# EAGLE library part 62000821821 (library Board_to_Board_Connectors_rev15d)
WR-PHD 2.00mm Dual Socket Header, 8 Pins=>Code : Con_BTB_SHD_2.00_2_62000821821 <http://katalog.we-online.de/media/thumbs2/eican/thb_Con_BTB_SHD_2.00_2_6200xx21821_pf2.jpg> Details see: http://katalog.we-online.de/en/em/620_0xx_218_21 Created 2014-06-03, Karrer Zheng 2014 (C) Würth Elektronik
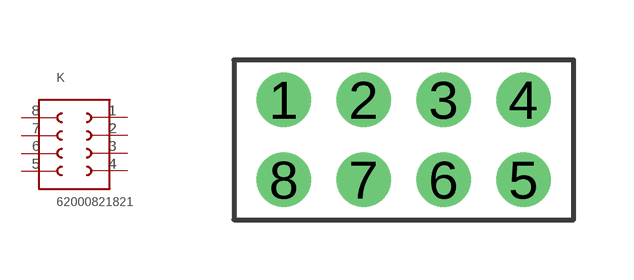
[diagram p256: symbol with the pads of 62000821821; footprint 62000821821]

Designator prefix K

## 62000821821  [62000821821]
1  1  pas
2  2  pas
3  3  pas
4  4  pas
5  5  pas
6  6  pas
7  7  pas
8  8  pas

## Footprint 62000821821 (pad centres in mm)
WR-PHD 2.00mm Dual Socket Header, 8 Pins
drill 0.85: 1 -3,1; 2 -1,1; 3 1,1; 4 3,1; 5 3,-1; 6 1,-1; 7 -1,-1; 8 -3,-1